# EAGLE library part MAX3491 (library di_ic)
RS485 TRANSEIVER
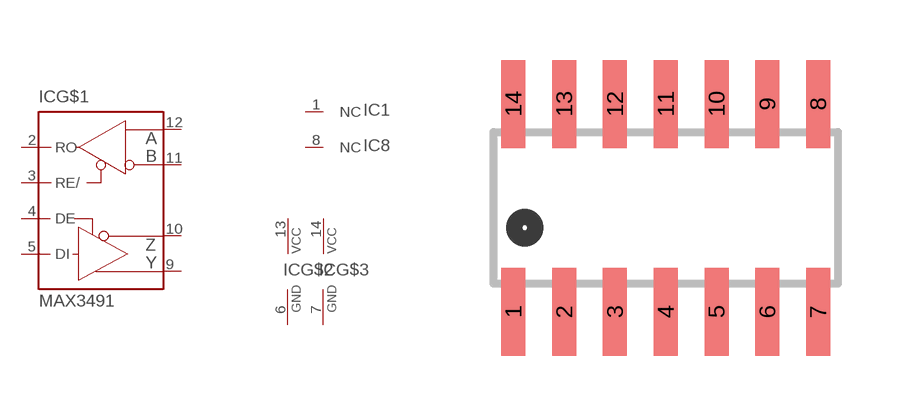
[diagram p28: symbol with the pads of SO14; footprint SO14]

Designator prefix IC; gates G$1=MAX3491 1=NC 8=NC G$2=PWR_GND G$3=PWR_GND

## MAX3491  [SO14]
1  1:NC  nc
2  G$1:RO  out
3  G$1:RE/  in
4  G$1:DE  in
5  G$1:DI  in
6  G$2:GND  pwr
7  G$3:GND  pwr
8  8:NC  nc
9  G$1:Y  pas
10  G$1:Z  pas
11  G$1:B  pas
12  G$1:A  pas
13  G$2:VCC  pwr
14  G$3:VCC  pwr

## Footprint SO14 (pad centres in mm)
Small Outline Package 14
smd 0.6 x 2.2: 1 -3.81,-2.6; 2 -2.54,-2.6; 3 -1.27,-2.6; 4 0,-2.6; 5 1.27,-2.6; 6 2.54,-2.6; 7 3.81,-2.6; 8 3.81,2.6; 9 2.54,2.6; 10 1.27,2.6; 11 0,2.6; 12 -1.27,2.6; 13 -2.54,2.6; 14 -3.81,2.6